# Altium footprint library fpc.PcbLib: 2 footprints
Each footprint in its own frame and in the unit in brackets; x right, y up, seen from the top. Pads: shape width x height; smd on the part's side, far side on the other; paste and mask are expansions set on the pad; w line width, h text height; cw(c..) or ccw(c..) is an arc to the next point about the centre after c.
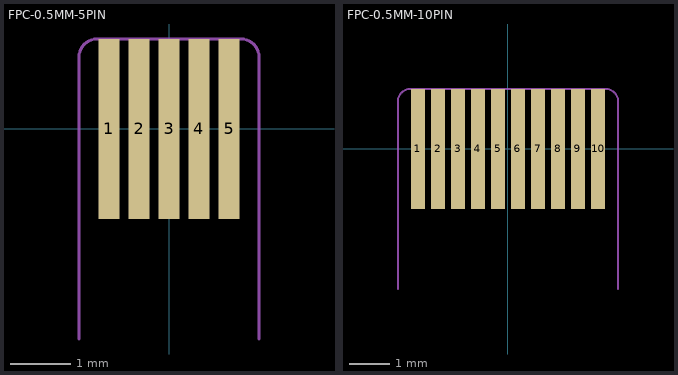
[diagram p0: the footprints below, top view; thin cyan lines are the x and y axes]

## FPC-0.5MM-5PIN [mm] "Mates with Molex 545500572"
pads (5):
  rect 0.35x3 smd paste-2539.97: 1(-1,0) 2(-0.5,0) 3(0,0) 4(0.5,0) 5(1,0)
Top Solder:
  region: -1.5,-1.5 1.5,-1.5 1.5,1.2 1.5,1.26 1.454,1.37 1.37,1.454 1.26,1.5 1.2,1.5 -1.2,1.5 -1.26,1.5 -1.37,1.454 -1.454,1.37 -1.5,1.26 -1.5,1.2
Mechanical 1:
  lines w0.05: -1.5,-3.5 -1.5,-1.5 -1.5,1.2 cw(c-1.2,1.2) -1.2,1.5 1.2,1.5 cw(c1.2,1.2) 1.5,1.2 1.5,-1.5 1.5,-3.5

## FPC-0.5MM-10PIN [mm]
pads (10):
  rect 0.35x3 smd paste-2539.97: 1(-2.25,0) 2(-1.75,0) 3(-1.25,0) 4(-0.75,0) 5(-0.25,0) 6(0.25,0) 7(0.75,0) 8(1.25,0) 9(1.75,0) 10(2.25,0)
Top Solder:
  region: -2.75,-1.5 -2.75,1.2 -2.75,1.26 -2.704,1.37 -2.62,1.454 -2.51,1.5 -2.45,1.5 2.45,1.5 2.51,1.5 2.62,1.454 2.704,1.37 2.75,1.26 2.75,1.2 2.75,-1.5
Mechanical 1:
  lines w0.05: -2.75,-3.5 -2.75,-1.5 -2.75,1.2 cw(c-2.45,1.2) -2.45,1.5 2.45,1.5 cw(c2.45,1.2) 2.75,1.2 2.75,-1.5 2.75,-3.5